# EAGLE library part 1315050930246 (library WL-ICLED)
WL-ICLED Integrated Controller within LED Characteristics Compatible with open source libraries such as FastLED Ready to use with pre-programmed IC 0% to 100% digital dimming via command Individual pixel colour and brightness control Full RGB spectrum Signal control system Applications Signal control system Full-color matrix display Audio and gaming systems Indoor illumination E-mobility <https://www.we-online.com/components/media/o752565v209%20Family-WL-ICLED.jpg> Details see: www.we-online.com/components/products/WL-ICLED <www.we-online.com/catalog/WL-ICLED/?utm_source=eagle_model&utm_medium=description_link&utm_campaign=eisos_eagle> Created by Ella Wu 2024-09-10 2024 (C) Wurth Elektronik
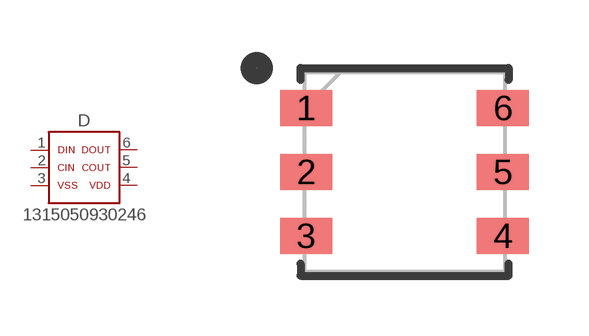
[diagram p0: symbol with the pads of WL-ILED_5050_PLCC6; footprint WL-ILED_5050_PLCC6]

Designator prefix D

## 1315050930246 (DATASHEET-URL: https://www.we-online.com/redexpert/spec/1315050930246?ae; DOMINANT-WAVELENGTH: 470nm & 525nm & 625nm; EMITTING-COLOR: Blue & Green & Red; FPWM: 20kHz; IC-OUTPUT-CURRENT: 21mA; LUMINOUS-INTENSITY: 400mcd & 1800mcd & 800mcd; PART-NUMBER: 1315050930246; PEAK-WAVELENGTH: 465nm & 520nm & 630nm; VALUE: 1315050930246; VIEWING-ANGLE: 120°)  [WL-ILED_5050_PLCC6]
1  1  pas
2  2  pas
3  3  pas
4  4  pas
5  5  pas
6  6  pas

## Footprint WL-ILED_5050_PLCC6 (pad centres in mm)
smd 1.3 x 0.9: 1 -2.46,1.6; 2 -2.46,0; 3 -2.46,-1.6; 4 2.46,-1.6; 5 2.46,0; 6 2.46,1.6